# Altium integrated library NSC Analog.IntLib: 165 symbols (part 4 of 5)
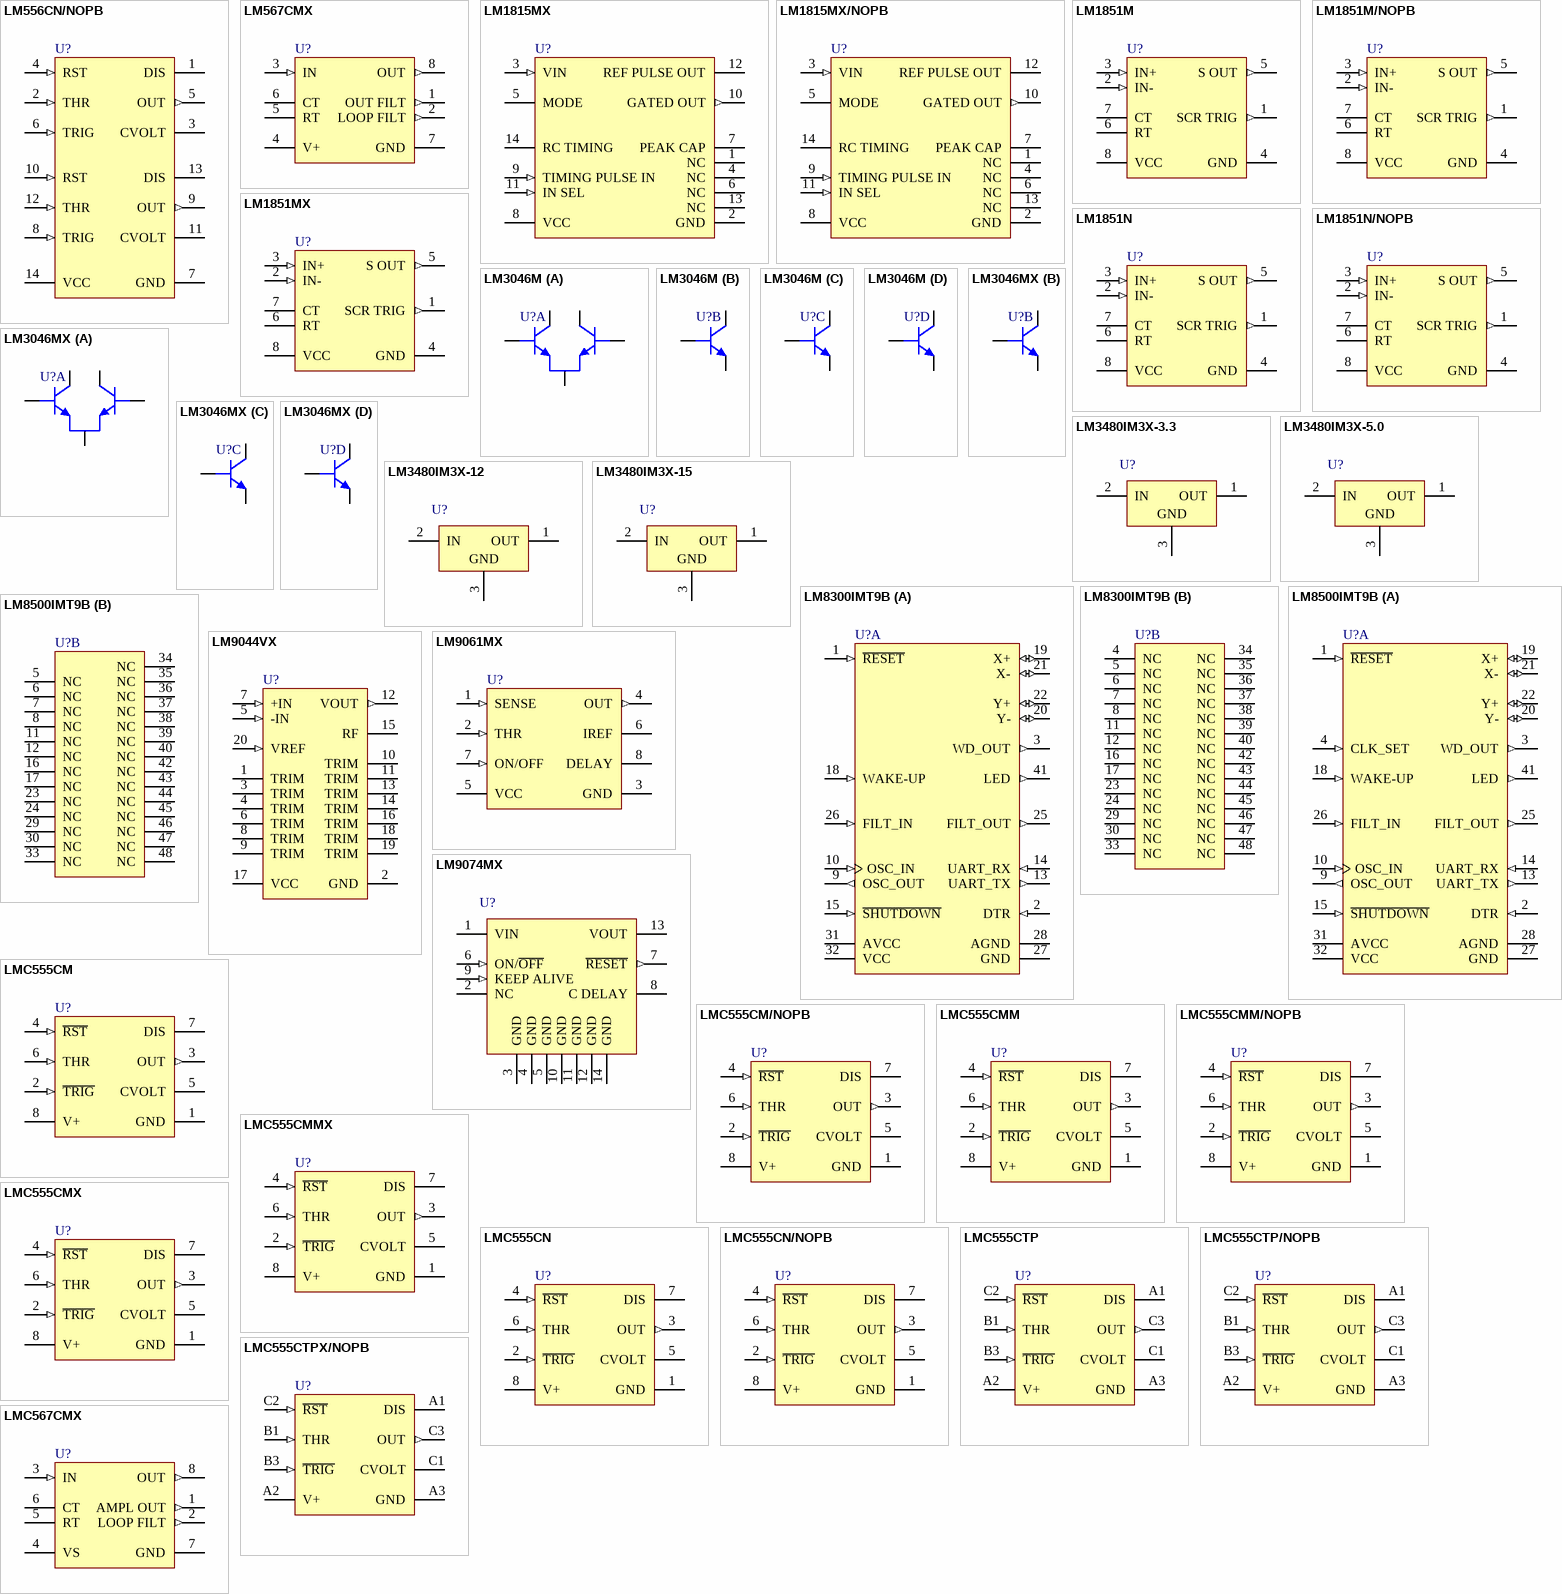
[diagram p10: symbols LM556CN/NOPB to LMC567CMX]

## LMC555CMMX
designator U?
CMOS Timer, 8-pin Mini SOIC; PartNumber: LMC555CMMX; Manufacturer: National Semiconductor; PackageTopMarking: ZXTT*ZC5; PowerWise: N; CompType: Analog IC; Published: 4-Dec-2008; DatasheetVersion: May-2006; PackageVersion: revF, Apr-2008; PackageReference: MUA08A; Publisher: Altium Limited; PackageDescription: MINI SOIC, .118 x .118 x .034in, 8 Lead, .0256in Pitch; RoHS: N; PinCount: 8; Code_JEDEC: MO-187-AA; ComponentLink1Description: LMC555 Datasheet; ComponentLink1URL: http://www.national.com/ds/LM/LMC555.pdf; ComponentLink2Description: LMC555 Web Page; ComponentLink2URL: http://www.national.com/pf/LM/LMC555.html; ComponentLink3Description: MUA08A Package Page; ComponentLink3URL: http://www.national.com/packaging/folders/mua08a.html
footprint MUA08A_N (TSOP, 8-Leads, Body 3x3mm, Pitch 0.65mm, IPC Medium Density)
footprint MUA08A_L (TSOP, 8-Leads, Body 3x3mm, Pitch 0.65mm, IPC High Density)
footprint MUA08A_M (TSOP, 8-Leads, Body 3x3mm, Pitch 0.65mm, IPC Low Density)
pins: 1 GND (power), 2 ~{TRIG} (in), 3 OUT (out), 4 ~{RST} (in), 5 CVOLT, 6 THR (in), 7 DIS (oc), 8 V+ (power)

## LMC555CMX
designator U?
CMOS Timer, 8-pin Narrow SOIC; PartNumber: LMC555CMX; Manufacturer: National Semiconductor; PackageTopMarking: NSZXTT*LMC*555CM; PowerWise: N; CompType: Analog IC; Published: 4-Dec-2008; DatasheetVersion: May-2006; PackageVersion: revM, May-2009; PackageReference: M08A; Publisher: Altium Limited; PackageDescription: SOIC Narrow, 4.9 x 3.9 x 1.45mm, 8 Lead, 1.27mm Pitch; RoHS: N; PinCount: 8; Code_JEDEC: MS-012-AA; Code_IPC: SOIC127P600-8; ComponentLink1Description: LMC555 Datasheet; ComponentLink1URL: http://www.national.com/ds/LM/LMC555.pdf; ComponentLink2Description: LMC555 Web Page; ComponentLink2URL: http://www.national.com/pf/LM/LMC555.html; ComponentLink3Description: M08A Package Page; ComponentLink3URL: http://www.national.com/packaging/folders/m08a.html
footprint M08A_N (SOIC, 8-Leads, Body 4.9x3.9mm, Pitch 1.27mm, IPC Medium Density)
footprint M08A_L (SOIC, 8-Leads, Body 4.9x3.9mm, Pitch 1.27mm, IPC High Density)
footprint M08A_M (SOIC, 8-Leads, Body 4.9x3.9mm, Pitch 1.27mm, IPC Low Density)
pins: 1 GND (power), 2 ~{TRIG} (in), 3 OUT (out), 4 ~{RST} (in), 5 CVOLT, 6 THR (in), 7 DIS (oc), 8 V+ (power)

## LMC555CN
designator U?
CMOS Timer, 8-pin MDIP; PartNumber: LMC555CN; Manufacturer: National Semiconductor; PackageTopMarking: NSUZXYTTE#*LMC*555CN; PowerWise: N; CompType: Analog IC; Published: 4-Dec-2008; DatasheetVersion: May-2006; PackageVersion: revG, May-2006; PackageReference: N08E; Publisher: Altium Limited; PackageDescription: MDIP, .365 x .250 x .130in, 8 Lead, .100in Pitch; Supplier 1: Farnell; Supplier Part Number 1: 9488243; RoHS: N; PinCount: 8; Code_JEDEC: MS-001-BA; ComponentLink1Description: LMC555 Datasheet; ComponentLink1URL: http://www.national.com/ds/LM/LMC555.pdf; ComponentLink2Description: LMC555 Web Page; ComponentLink2URL: http://www.national.com/pf/LM/LMC555.html; ComponentLink3Description: N08E Package Page; ComponentLink3URL: http://www.national.com/packaging/folders/n08e.html
footprint N08E (DIP, 8-Leads, Row Spacing 7.62mm, Pitch 2.54mm, Body 9.91x6.35mm)
pins: 1 GND (power), 2 ~{TRIG} (in), 3 OUT (out), 4 ~{RST} (in), 5 CVOLT, 6 THR (in), 7 DIS (oc), 8 V+ (power)

## LMC555CN/NOPB
designator U?
CMOS Timer, 8-pin MDIP, Pb-Free; PartNumber: LMC555CN/NOPB; Manufacturer: National Semiconductor; PackageTopMarking: NSUZXYTTE#*LMC*555CN; PowerWise: N; CompType: Analog IC; Published: 1-Mar-2010; DatasheetVersion: May-2006; PackageVersion: revG, May-2006; PackageReference: N08E; Publisher: Altium Limited; PackageDescription: MDIP, .365 x .250 x .130in, 8 Lead, .100in Pitch; Supplier 1: Digi-Key; Supplier Part Number 1: LMC555CN-ND; Supplier 2: Farnell; Supplier Part Number 2: 1496016; RoHS: Y; PinCount: 8; Code_JEDEC: MS-001-BA; ComponentLink1Description: LMC555 Datasheet; ComponentLink1URL: http://www.national.com/ds/LM/LMC555.pdf; ComponentLink2Description: LMC555 Web Page; ComponentLink2URL: http://www.national.com/pf/LM/LMC555.html; ComponentLink3Description: N08E Package Page; ComponentLink3URL: http://www.national.com/packaging/folders/n08e.html
footprint N08E (DIP, 8-Leads, Row Spacing 7.62mm, Pitch 2.54mm, Body 9.91x6.35mm)
pins: 1 GND (power), 2 ~{TRIG} (in), 3 OUT (out), 4 ~{RST} (in), 5 CVOLT, 6 THR (in), 7 DIS (oc), 8 V+ (power)

## LMC555CTP
designator U?
CMOS Timer, 8-pin Micro SMD; PartNumber: LMC555CTP; Manufacturer: National Semiconductor; PackageTopMarking: XVF*I 02; PowerWise: N; CompType: Analog IC; Published: 29-May-2009; DatasheetVersion: May-2006; PackageVersion: revA, Mar-2002; PackageReference: TPA08FGA; Publisher: Altium Limited; PackageDescription: Thin Micro SMD, 8 Bump, 0.5mm Pitch; RoHS: Y; PinCount: 8; Code_JEDEC: MO-211-BC; ComponentLink1Description: LMC555 Datasheet; ComponentLink1URL: http://www.national.com/ds/LM/LMC555.pdf; ComponentLink2Description: LMC555 Web Page; ComponentLink2URL: http://www.national.com/pf/LM/LMC555.html; ComponentLink3Description: TPA08FGA Package Page; ComponentLink3URL: http://www.national.com/packaging/folders/tpa08fga.html
footprint TPA08FGA (Micro SMD, 8-Leads, Body 1.44x1.41mm, Pitch 0.5mm, NSC Recommended)
pins: A1 DIS (oc), A2 V+ (power), A3 GND (power), B1 THR (in), B3 ~{TRIG} (in), C1 CVOLT, C2 ~{RST} (in), C3 OUT (out)

## LMC555CTP/NOPB
designator U?
CMOS Timer, 8-pin Micro SMD, Pb-Free; PartNumber: LMC555CTP/NOPB; Manufacturer: National Semiconductor; PackageTopMarking: XVF*I 02; PowerWise: N; CompType: Analog IC; Published: 1-Mar-2010; DatasheetVersion: May-2006; PackageVersion: revA, Mar-2002; PackageReference: TPA08FGA; Publisher: Altium Limited; PackageDescription: Thin Micro SMD, 8 Bump, 0.5mm Pitch; Supplier 1: Digi-Key; Supplier Part Number 1: LMC555CTP-ND; RoHS: Y; PinCount: 8; Code_JEDEC: MO-211-BC; ComponentLink1Description: LMC555 Datasheet; ComponentLink1URL: http://www.national.com/ds/LM/LMC555.pdf; ComponentLink2Description: LMC555 Web Page; ComponentLink2URL: http://www.national.com/pf/LM/LMC555.html; ComponentLink3Description: TPA08FGA Package Page; ComponentLink3URL: http://www.national.com/packaging/folders/tpa08fga.html
footprint TPA08FGA (Micro SMD, 8-Leads, Body 1.44x1.41mm, Pitch 0.5mm, NSC Recommended)
pins: A1 DIS (oc), A2 V+ (power), A3 GND (power), B1 THR (in), B3 ~{TRIG} (in), C1 CVOLT, C2 ~{RST} (in), C3 OUT (out)

## LMC555CTPX/NOPB
designator U?
CMOS Timer, 8-pin Micro SMD, Pb-Free; PartNumber: LMC555CTPX/NOPB; Manufacturer: National Semiconductor; PackageTopMarking: XVF*I 02; PowerWise: N; CompType: Analog IC; Published: 1-Mar-2010; DatasheetVersion: May-2006; PackageVersion: revA, Mar-2002; PackageReference: TPA08FGA; Publisher: Altium Limited; PackageDescription: Thin Micro SMD, 8 Bump, 0.5mm Pitch; Supplier 1: Digi-Key; Supplier Part Number 1: LMC555CTPX-ND; RoHS: Y; PinCount: 8; Code_JEDEC: MO-211-BC; ComponentLink1Description: LMC555 Datasheet; ComponentLink1URL: http://www.national.com/ds/LM/LMC555.pdf; ComponentLink2Description: LMC555 Web Page; ComponentLink2URL: http://www.national.com/pf/LM/LMC555.html; ComponentLink3Description: TPA08FGA Package Page; ComponentLink3URL: http://www.national.com/packaging/folders/tpa08fga.html
footprint TPA08FGA (Micro SMD, 8-Leads, Body 1.44x1.41mm, Pitch 0.5mm, NSC Recommended)
pins: A1 DIS (oc), A2 V+ (power), A3 GND (power), B1 THR (in), B3 ~{TRIG} (in), C1 CVOLT, C2 ~{RST} (in), C3 OUT (out)

## LMC567CMX
designator U?
Low Power Tone Decoder, 8-pin Narrow SOIC; PartNumber: LMC567CMX; Manufacturer: National Semiconductor; PackageTopMarking: NSZXTT*LMC*567CM; PowerWise: N; CompType: Analog IC; Published: 4-Dec-2008; DatasheetVersion: Jun-1999; PackageVersion: revM, May-2009; PackageReference: M08A; Publisher: Altium Limited; PackageDescription: SOIC Narrow, 4.9 x 3.9 x 1.45mm, 8 Lead, 1.27mm Pitch; Supplier 1: Digi-Key; Supplier Part Number 1: LMC567CMX-ND; RoHS: N; PinCount: 8; Code_JEDEC: MS-012-AA; Code_IPC: SOIC127P600-8; ComponentLink1Description: LMC567 Datasheet; ComponentLink1URL: http://www.national.com/ds/LM/LMC567.pdf; ComponentLink2Description: LMC567 Web Page; ComponentLink2URL: http://www.national.com/pf/LM/LMC567.html; ComponentLink3Description: M08A Package Page; ComponentLink3URL: http://www.national.com/packaging/folders/m08a.html
footprint M08A_N (SOIC, 8-Leads, Body 4.9x3.9mm, Pitch 1.27mm, IPC Medium Density)
footprint M08A_L (SOIC, 8-Leads, Body 4.9x3.9mm, Pitch 1.27mm, IPC High Density)
footprint M08A_M (SOIC, 8-Leads, Body 4.9x3.9mm, Pitch 1.27mm, IPC Low Density)
pins: 1 AMPL OUT (out), 2 LOOP FILT (out), 3 IN (in), 4 VS (power), 5 RT, 6 CT, 7 GND (power), 8 OUT (out)

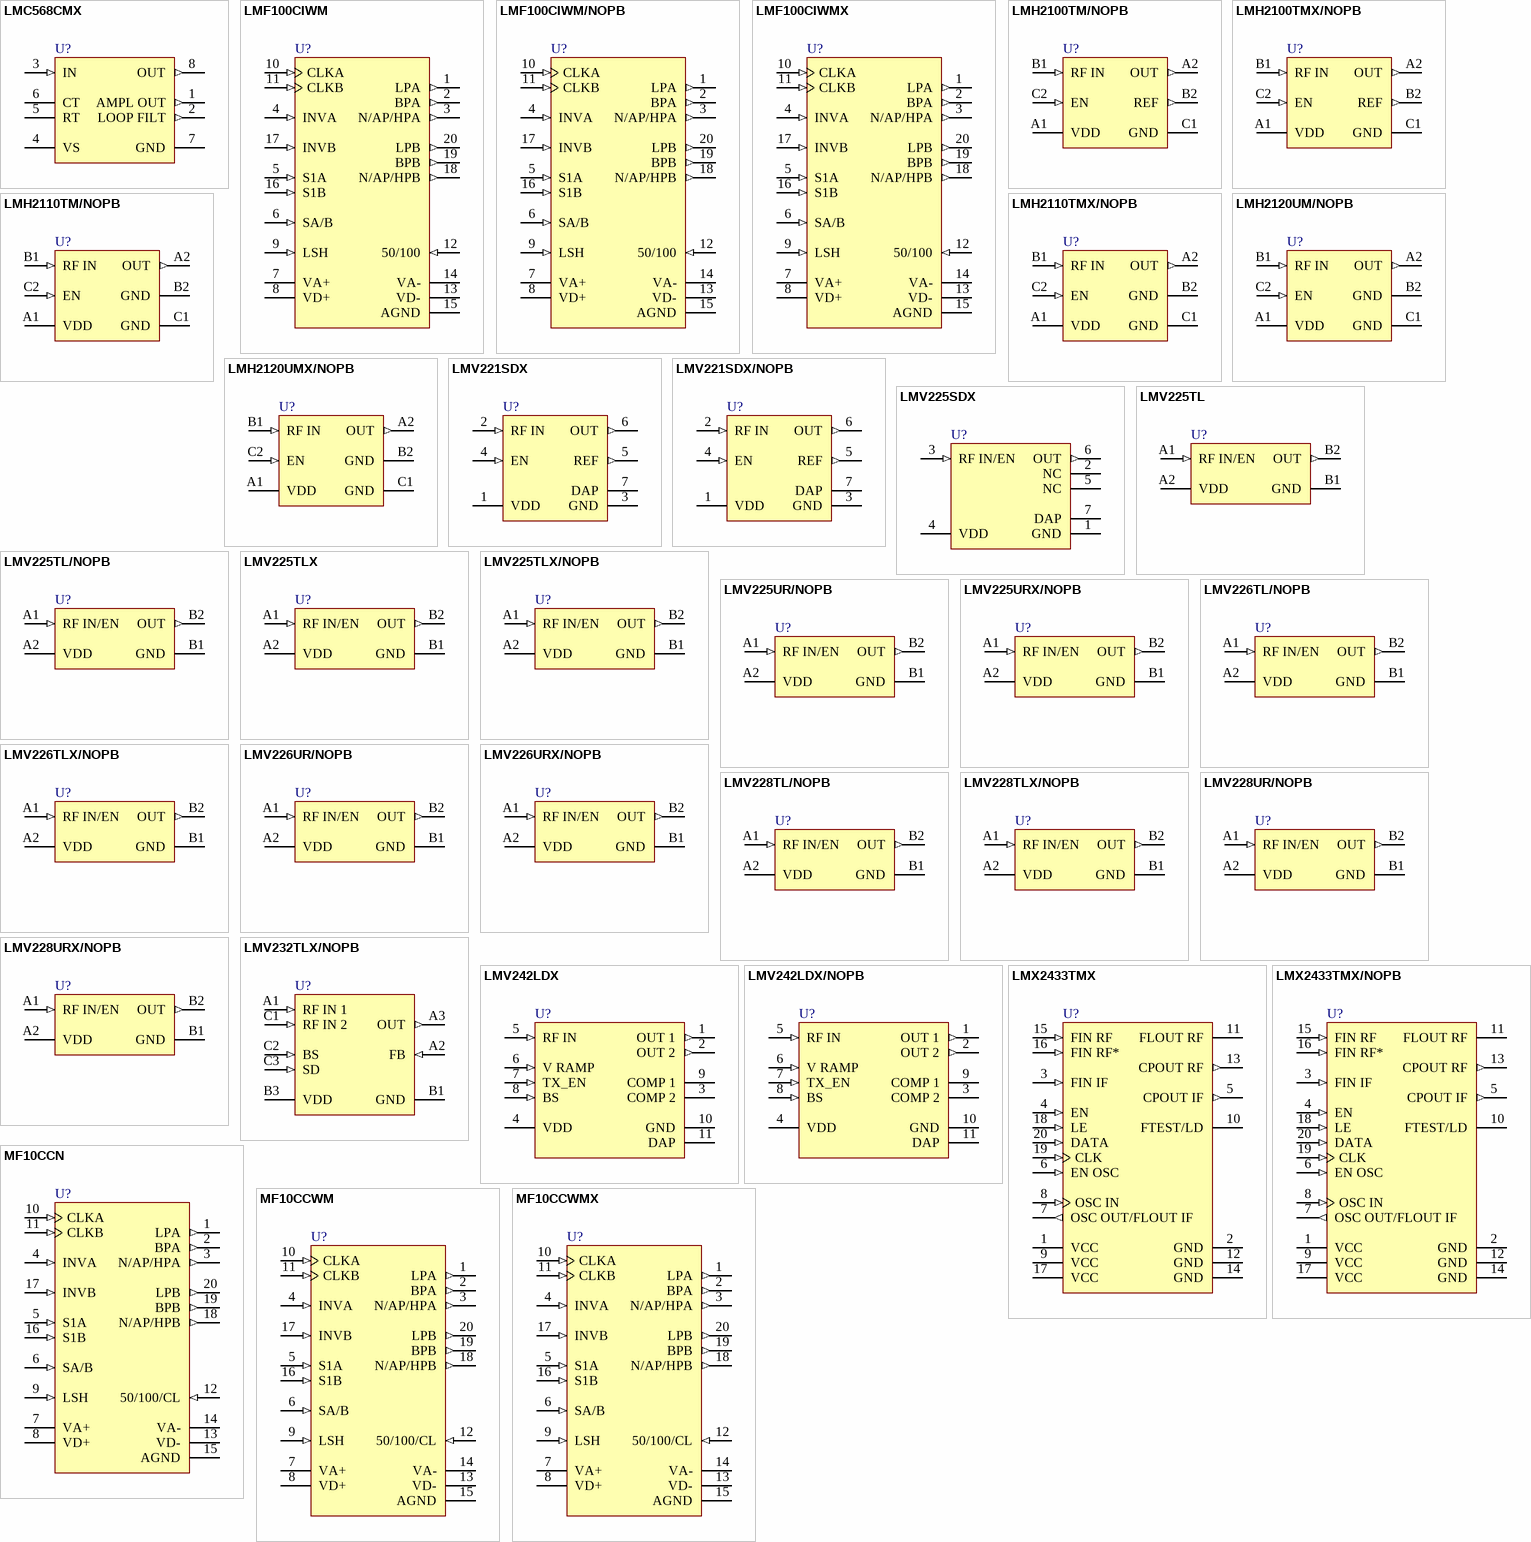
[diagram p6: symbols LMC568CMX to MF10CCWMX]

## LMC568CMX
designator U?
Low Power Phase-Locked Loop, 8-pin Narrow SOIC; PartNumber: LMC568CMX; Manufacturer: National Semiconductor; PackageTopMarking: NSZXTT*LMC*568CM; PowerWise: N; CompType: Analog IC; Published: 4-Dec-2008; DatasheetVersion: May-1999; PackageVersion: revM, May-2009; PackageReference: M08A; Publisher: Altium Limited; PackageDescription: SOIC Narrow, 4.9 x 3.9 x 1.45mm, 8 Lead, 1.27mm Pitch; RoHS: N; PinCount: 8; Code_JEDEC: MS-012-AA; Code_IPC: SOIC127P600-8; ComponentLink1Description: LMC568 Datasheet; ComponentLink1URL: http://www.national.com/ds/LM/LMC568.pdf; ComponentLink2Description: LMC568 Web Page; ComponentLink2URL: http://www.national.com/pf/LM/LMC568.html; ComponentLink3Description: M08A Package Page; ComponentLink3URL: http://www.national.com/packaging/folders/m08a.html
footprint M08A_N (SOIC, 8-Leads, Body 4.9x3.9mm, Pitch 1.27mm, IPC Medium Density)
footprint M08A_L (SOIC, 8-Leads, Body 4.9x3.9mm, Pitch 1.27mm, IPC High Density)
footprint M08A_M (SOIC, 8-Leads, Body 4.9x3.9mm, Pitch 1.27mm, IPC Low Density)
pins: 1 AMPL OUT (out), 2 LOOP FILT (out), 3 IN (in), 4 VS (power), 5 RT, 6 CT, 7 GND (power), 8 OUT (out)

## LMF100CIWM
designator U?
High Performance Dual Switched Capacitor Filter, 20-pin Wide SOIC; PartNumber: LMF100CIWM; Manufacturer: National Semiconductor; PackageTopMarking: NSUZXYTTE#*LMF100*CIWM; PowerWise: N; CompType: Analog IC; Published: 4-Dec-2008; DatasheetVersion: Jul-1999; PackageVersion: revG, Jan-1996; PackageReference: M20B; Publisher: Altium Limited; PackageDescription: Molded Package, S0, .300in Wide, 20 Lead; Supplier 1: Farnell; Supplier Part Number 1: 1651957; RoHS: N; PinCount: 20; Code_JEDEC: MS-013-AC; Code_IPC: SOIC127P1030-20; ComponentLink1Description: LMF100 Datasheet; ComponentLink1URL: http://www.national.com/ds/LM/LMF100.pdf; ComponentLink2Description: LMF100 Web Page; ComponentLink2URL: http://www.national.com/pf/LM/LMF100.html; ComponentLink3Description: M20B Package Page; ComponentLink3URL: http://www.national.com/packaging/folders/m20b.html
footprint M20B_N (SOIC, 20-Leads, Body 12.8x7.5mm, Pitch 1.27mm, IPC Medium Density)
footprint M20B_L (SOIC, 20-Leads, Body 12.8x7.5mm, Pitch 1.27mm, IPC High Density)
footprint M20B_M (SOIC, 20-Leads, Body 12.8x7.5mm, Pitch 1.27mm, IPC Low Density)
pins: 1 LPA (out), 2 BPA (out), 3 N/AP/HPA (out), 4 INVA (in), 5 S1A (in), 6 SA/B (in), 7 VA+ (power), 8 VD+ (power), 9 LSH (in), 10 CLKA (in), 11 CLKB (in), 12 50/100 (in), 13 VD- (power), 14 VA- (power), 15 AGND (power), 16 S1B (in), 17 INVB (in), 18 N/AP/HPB (out), 19 BPB (out), 20 LPB (out)

## LMF100CIWM/NOPB
designator U?
High Performance Dual Switched Capacitor Filter, 20-pin Wide SOIC, Pb-Free; PartNumber: LMF100CIWM/NOPB; Manufacturer: National Semiconductor; PackageTopMarking: NSUZXYTTE#*LMF100*CIWM; PowerWise: N; CompType: Analog IC; Published: 1-Mar-2010; DatasheetVersion: Jul-1999; PackageVersion: revG, Jan-1996; PackageReference: M20B; Publisher: Altium Limited; PackageDescription: Molded Package, S0, .300in Wide, 20 Lead; Supplier 1: Digi-Key; Supplier Part Number 1: LMF100CIWM-ND; RoHS: Y; PinCount: 20; Code_JEDEC: MS-013-AC; Code_IPC: SOIC127P1030-20; ComponentLink1Description: LMF100 Datasheet; ComponentLink1URL: http://www.national.com/ds/LM/LMF100.pdf; ComponentLink2Description: LMF100 Web Page; ComponentLink2URL: http://www.national.com/pf/LM/LMF100.html; ComponentLink3Description: M20B Package Page; ComponentLink3URL: http://www.national.com/packaging/folders/m20b.html
footprint M20B_N (SOIC, 20-Leads, Body 12.8x7.5mm, Pitch 1.27mm, IPC Medium Density)
footprint M20B_L (SOIC, 20-Leads, Body 12.8x7.5mm, Pitch 1.27mm, IPC High Density)
footprint M20B_M (SOIC, 20-Leads, Body 12.8x7.5mm, Pitch 1.27mm, IPC Low Density)
pins: 1 LPA (out), 2 BPA (out), 3 N/AP/HPA (out), 4 INVA (in), 5 S1A (in), 6 SA/B (in), 7 VA+ (power), 8 VD+ (power), 9 LSH (in), 10 CLKA (in), 11 CLKB (in), 12 50/100 (in), 13 VD- (power), 14 VA- (power), 15 AGND (power), 16 S1B (in), 17 INVB (in), 18 N/AP/HPB (out), 19 BPB (out), 20 LPB (out)

## LMF100CIWMX
designator U?
High Performance Dual Switched Capacitor Filter, 20-pin Wide SOIC; PartNumber: LMF100CIWMX; Manufacturer: National Semiconductor; PackageTopMarking: NSUZXYTTE#*LMF100*CIWM; PowerWise: N; CompType: Analog IC; Published: 4-Dec-2008; DatasheetVersion: Jul-1999; PackageVersion: revG, Jan-1996; PackageReference: M20B; Publisher: Altium Limited; PackageDescription: Molded Package, S0, .300in Wide, 20 Lead; RoHS: N; PinCount: 20; Code_JEDEC: MS-013-AC; Code_IPC: SOIC127P1030-20; ComponentLink1Description: LMF100 Datasheet; ComponentLink1URL: http://www.national.com/ds/LM/LMF100.pdf; ComponentLink2Description: LMF100 Web Page; ComponentLink2URL: http://www.national.com/pf/LM/LMF100.html; ComponentLink3Description: M20B Package Page; ComponentLink3URL: http://www.national.com/packaging/folders/m20b.html
footprint M20B_N (SOIC, 20-Leads, Body 12.8x7.5mm, Pitch 1.27mm, IPC Medium Density)
footprint M20B_L (SOIC, 20-Leads, Body 12.8x7.5mm, Pitch 1.27mm, IPC High Density)
footprint M20B_M (SOIC, 20-Leads, Body 12.8x7.5mm, Pitch 1.27mm, IPC Low Density)
pins: 1 LPA (out), 2 BPA (out), 3 N/AP/HPA (out), 4 INVA (in), 5 S1A (in), 6 SA/B (in), 7 VA+ (power), 8 VD+ (power), 9 LSH (in), 10 CLKA (in), 11 CLKB (in), 12 50/100 (in), 13 VD- (power), 14 VA- (power), 15 AGND (power), 16 S1B (in), 17 INVB (in), 18 N/AP/HPB (out), 19 BPB (out), 20 LPB (out)

## LMH2100TM/NOPB
designator U?
50 MHz to 4 GHz 40 dB Logarithmic Power Detector for CDMA and WCDMA, 6-pin Micro SMD, Pb-Free; PartNumber: LMH2100TM/NOPB; Manufacturer: National Semiconductor; PackageTopMarking: XV*I J; PowerWise: N; CompType: Analog IC; Published: 1-Mar-2010; DatasheetVersion: Mar-2008; PackageVersion: revB; PackageReference: TMD06BBA; Publisher: Altium Limited; PackageDescription: Thin Micro SMD, 6 Bump, 0.4mm Pitch; Supplier 1: Digi-Key; Supplier Part Number 1: LMH2100TMTR-ND; Supplier 2: Digi-Key; Supplier Part Number 2: LMH2100TMCT-ND; Supplier 3: Digi-Key; Supplier Part Number 3: LMH2100TMDKR-ND; RoHS: Y; PinCount: 6; ComponentLink1Description: LMH2100 Datasheet; ComponentLink1URL: http://www.national.com/ds/LM/LMH2100.pdf; ComponentLink2Description: LMH2100 Web Page; ComponentLink2URL: http://www.national.com/pf/LM/LMH2100.html; ComponentLink3Description: TMD06BBA Package Page; ComponentLink3URL: http://www.national.com/packaging/folders/tmd06bba.html
footprint TMD06BBA (Micro SMD, 6-Leads, Body 1.24x0.84mm, Pitch 0.4mm, NSC Recommended)
pins: A1 VDD (power), A2 OUT (out), B1 RF IN (in), B2 REF (out), C1 GND (power), C2 EN (in)

## LMH2100TMX/NOPB
designator U?
50 MHz to 4 GHz 40 dB Logarithmic Power Detector for CDMA and WCDMA, 6-pin Micro SMD, Pb-Free; PartNumber: LMH2100TMX/NOPB; Manufacturer: National Semiconductor; PackageTopMarking: XV*I J; PowerWise: N; CompType: Analog IC; Published: 1-Mar-2010; DatasheetVersion: Mar-2008; PackageVersion: revB; PackageReference: TMD06BBA; Publisher: Altium Limited; PackageDescription: Thin Micro SMD, 6 Bump, 0.4mm Pitch; Supplier 1: Digi-Key; Supplier Part Number 1: LMH2100TMX-ND; RoHS: Y; PinCount: 6; ComponentLink1Description: LMH2100 Datasheet; ComponentLink1URL: http://www.national.com/ds/LM/LMH2100.pdf; ComponentLink2Description: LMH2100 Web Page; ComponentLink2URL: http://www.national.com/pf/LM/LMH2100.html; ComponentLink3Description: TMD06BBA Package Page; ComponentLink3URL: http://www.national.com/packaging/folders/tmd06bba.html
footprint TMD06BBA (Micro SMD, 6-Leads, Body 1.24x0.84mm, Pitch 0.4mm, NSC Recommended)
pins: A1 VDD (power), A2 OUT (out), B1 RF IN (in), B2 REF (out), C1 GND (power), C2 EN (in)

## LMH2110TM/NOPB
designator U?
8 GHz Logarithmic RMS Power Detector with 45 dB dynamic range, 6-pin Micro SMD, Pb-Free; PartNumber: LMH2110TM/NOPB; Manufacturer: National Semiconductor; PackageTopMarking: XV*I P; PowerWise: N; CompType: Analog IC; Published: 1-Mar-2010; DatasheetVersion: Jan-2010; PackageVersion: revB; PackageReference: TMD06BBA; Publisher: Altium Limited; PackageDescription: Thin Micro SMD, 6 Bump, 0.4mm Pitch; Supplier 1: Digi-Key; Supplier Part Number 1: LMH2110TMTR-ND; Supplier 2: Digi-Key; Supplier Part Number 2: LMH2110TMCT-ND; Supplier 3: Digi-Key; Supplier Part Number 3: LMH2110TMDKR-ND; RoHS: Y; PinCount: 6; ComponentLink1Description: LMH2110 Datasheet; ComponentLink1URL: http://www.national.com/ds/LM/LMH2110.pdf; ComponentLink2Description: LMH2110 Web Page; ComponentLink2URL: http://www.national.com/pf/LM/LMH2110.html; ComponentLink3Description: TMD06BBA Package Page; ComponentLink3URL: http://www.national.com/packaging/folders/tmd06bba.html
footprint TMD06BBA (Micro SMD, 6-Leads, Body 1.24x0.84mm, Pitch 0.4mm, NSC Recommended)
pins: A1 VDD (power), A2 OUT (out), B1 RF IN (in), B2 GND (power), C1 GND (power), C2 EN (in)

## LMH2110TMX/NOPB
designator U?
8 GHz Logarithmic RMS Power Detector with 45 dB dynamic range, 6-pin Micro SMD, Pb-Free; PartNumber: LMH2110TMX/NOPB; Manufacturer: National Semiconductor; PackageTopMarking: XV*I P; PowerWise: N; CompType: Analog IC; Published: 1-Mar-2010; DatasheetVersion: Jan-2010; PackageVersion: revB; PackageReference: TMD06BBA; Publisher: Altium Limited; PackageDescription: Thin Micro SMD, 6 Bump, 0.4mm Pitch; Supplier 1: Digi-Key; Supplier Part Number 1: LMH2110TMX-ND; RoHS: Y; PinCount: 6; ComponentLink1Description: LMH2110 Datasheet; ComponentLink1URL: http://www.national.com/ds/LM/LMH2110.pdf; ComponentLink2Description: LMH2110 Web Page; ComponentLink2URL: http://www.national.com/pf/LM/LMH2110.html; ComponentLink3Description: TMD06BBA Package Page; ComponentLink3URL: http://www.national.com/packaging/folders/tmd06bba.html
footprint TMD06BBA (Micro SMD, 6-Leads, Body 1.24x0.84mm, Pitch 0.4mm, NSC Recommended)
pins: A1 VDD (power), A2 OUT (out), B1 RF IN (in), B2 GND (power), C1 GND (power), C2 EN (in)

## LMH2120UM/NOPB
designator U?
6 GHz Linear RMS Power Detector with 40 dB Dynamic Range, 6 pin MICRO SMD; PartNumber: LMH2120UM/NOPB; Manufacturer: National Semiconductor; PackageTopMarking: XV*I R; PowerWise: N; CompType: Analog IC; Published: 16-Nov-2010; DatasheetVersion: Jul-2010; PackageVersion: revB, 2010; PackageReference: UMD06AAA; Publisher: Altium Limited; PackageDescription: Thin Micro SMD, 6 Bump, 0.4mm Pitch; RoHS: Y; PinCount: 6; ComponentLink1Description: LMH2120 Datasheet; ComponentLink1URL: http://www.national.com/ds/LM/LMH2120.pdf; ComponentLink2Description: LMH2120 Web Page; ComponentLink2URL: http://www.national.com/pf/LM/LMH2120.html
footprint UMD06AAA (Micro SMD, 6-Leads, Body 1.23x0.83mm, Pitch 0.4mm, NSC Recommended)
pins: A1 VDD (power), A2 OUT (out), B1 RF IN (in), B2 GND (power), C1 GND (power), C2 EN (in)

## LMH2120UMX/NOPB
designator U?
6 GHz Linear RMS Power Detector with 40 dB Dynamic Range, 6 pin MICRO SMD; PartNumber: LMH2120UMX/NOPB; Manufacturer: National Semiconductor; PackageTopMarking: XV*I R; PowerWise: N; CompType: Analog IC; Published: 16-Nov-2010; DatasheetVersion: Jul-2010; PackageVersion: revB, 2010; PackageReference: UMD06AAA; Publisher: Altium Limited; PackageDescription: Thin Micro SMD, 6 Bump, 0.4mm Pitch; RoHS: Y; PinCount: 6; ComponentLink1Description: LMH2120 Datasheet; ComponentLink1URL: http://www.national.com/ds/LM/LMH2120.pdf; ComponentLink2Description: LMH2120 Web Page; ComponentLink2URL: http://www.national.com/pf/LM/LMH2120.html
footprint UMD06AAA (Micro SMD, 6-Leads, Body 1.23x0.83mm, Pitch 0.4mm, NSC Recommended)
pins: A1 VDD (power), A2 OUT (out), B1 RF IN (in), B2 GND (power), C1 GND (power), C2 EN (in)

## LMV221SDX
designator U?
50 MHz to 3.5 GHz 40 dB Logarithmic Power Detector for CDMA and WCDMA, 6-pin LLP; PartNumber: LMV221SDX; Manufacturer: National Semiconductor; PackageTopMarking: XTT*A96; PowerWise: Y; CompType: Analog IC; Published: 4-Dec-2008; DatasheetVersion: Mar-2008; PackageVersion: revA, Nov-2003; PackageReference: SDB06A; Publisher: Altium Limited; PackageDescription: LLP, Plastic, Dual, 2.2 x 2.5 x 0.8mm Body, 6 Lead, 0.65mm Pitch, No Pullback; RoHS: N; PinCount: 6; ComponentLink1Description: LMV221 Datasheet; ComponentLink1URL: http://www.national.com/ds/LM/LMV221.pdf; ComponentLink2Description: LMV221 Web Page; ComponentLink2URL: http://www.national.com/pf/LM/LMV221.html; ComponentLink3Description: SDB06A package page; ComponentLink3URL: http://www.national.com/packaging/folders/sdb06a.html
footprint SDB06A (SON, 6-Leads, Body 2.2x2.5mm, Pitch 0.65mm, NSC Recommended (SC-70 Land))
pins: 1 VDD (power), 2 RF IN (in), 3 GND (power), 4 EN (in), 5 REF (out), 6 OUT (out), 7 DAP (power)

## LMV221SDX/NOPB
designator U?
50 MHz to 3.5 GHz 40 dB Logarithmic Power Detector for CDMA and WCDMA, 6-pin LLP, Pb-Free; PartNumber: LMV221SDX/NOPB; Manufacturer: National Semiconductor; PackageTopMarking: XTT*A96; PowerWise: Y; CompType: Analog IC; Published: 1-Mar-2010; DatasheetVersion: Mar-2008; PackageVersion: revA, Nov-2003; PackageReference: SDB06A; Publisher: Altium Limited; PackageDescription: LLP, Plastic, Dual, 2.2 x 2.5 x 0.8mm Body, 6 Lead, 0.65mm Pitch, No Pullback; Supplier 1: Digi-Key; Supplier Part Number 1: LMV221SDX-ND; RoHS: Y; PinCount: 6; ComponentLink1Description: LMV221 Datasheet; ComponentLink1URL: http://www.national.com/ds/LM/LMV221.pdf; ComponentLink2Description: LMV221 Web Page; ComponentLink2URL: http://www.national.com/pf/LM/LMV221.html; ComponentLink3Description: SDB06A Package Page; ComponentLink3URL: http://www.national.com/packaging/folders/sdb06a.html
footprint SDB06A (SON, 6-Leads, Body 2.2x2.5mm, Pitch 0.65mm, NSC Recommended (SC-70 Land))
pins: 1 VDD (power), 2 RF IN (in), 3 GND (power), 4 EN (in), 5 REF (out), 6 OUT (out), 7 DAP (power)

## LMV225SDX
designator U?
RF Power Detector for CDMA and WCDMA, 6-pin LLP; PartNumber: LMV225SDX; Manufacturer: National Semiconductor; PackageTopMarking: XTT*A90; PowerWise: Y; CompType: Analog IC; Published: 4-Dec-2008; DatasheetVersion: Oct-2006; PackageVersion: revA, Nov-2003; PackageReference: SDB06A; Publisher: Altium Limited; PackageDescription: LLP, Plastic, Dual, 2.2 x 2.5 x 0.8mm Body, 6 Lead, 0.65mm Pitch, No Pullback; RoHS: N; PinCount: 6; ComponentLink1Description: LMV225 Datasheet; ComponentLink1URL: http://www.national.com/ds/LM/LMV225.pdf; ComponentLink2Description: LMV225 Web Page; ComponentLink2URL: http://www.national.com/pf/LM/LMV225.html; ComponentLink3Description: SDB06A package page; ComponentLink3URL: http://www.national.com/packaging/folders/sdb06a.html
footprint SDB06A (SON, 6-Leads, Body 2.2x2.5mm, Pitch 0.65mm, NSC Recommended (SC-70 Land))
pins: 1 GND (power), 2 NC, 3 RF IN/EN (in), 4 VDD (power), 5 NC, 6 OUT (out), 7 DAP (power)

## LMV225TL
designator U?
RF Power Detector for CDMA and WCDMA from the PowerWise® Family, 4-pin Micro SMD; PartNumber: LMV225TL; Manufacturer: National Semiconductor; PackageTopMarking: X*I; PowerWise: Y; CompType: Analog IC; Published: 4-Dec-2008; DatasheetVersion: Oct-2006; PackageVersion: revD, Mar-2005; PackageReference: TLA04AAA; Publisher: Altium Limited; PackageDescription: Thin Micro SMD, 4 Bump (Large), 0.5mm Pitch; Supplier 1: Farnell; Supplier Part Number 1: 8238898; RoHS: N; PinCount: 4; Code_JEDEC: MO-211-BA; ComponentLink1Description: LMV225 Datasheet; ComponentLink1URL: http://www.national.com/ds/LM/LMV225.pdf; ComponentLink2Description: LMV225 Web Page; ComponentLink2URL: http://www.national.com/pf/LM/LMV225.html; ComponentLink3Description: TLA04AAA package page; ComponentLink3URL: http://www.national.com/packaging/folders/tla04aaa.html
footprint TLA04AAA (Micro SMD, 4-Leads, Body 1.01x1.01mm, Pitch 0.5mm, NSC Recommended)
pins: A1 RF IN/EN (in), A2 VDD (power), B1 GND (power), B2 OUT (out)

## LMV225TL/NOPB
designator U?
RF Power Detector for CDMA and WCDMA, 4-pin Micro SMD, Pb-Free; PartNumber: LMV225TL/NOPB; Manufacturer: National Semiconductor; PackageTopMarking: X*I; PowerWise: Y; CompType: Analog IC; Published: 1-Mar-2010; DatasheetVersion: Oct-2006; PackageVersion: revD, Mar-2005; PackageReference: TLA04AAA; Publisher: Altium Limited; PackageDescription: Thin Micro SMD, 4 Bump (Large), 0.5mm Pitch; Supplier 1: Digi-Key; Supplier Part Number 1: LMV225TLTR-ND; Supplier 2: Digi-Key; Supplier Part Number 2: LMV225TLCT-ND; Supplier 3: Digi-Key; Supplier Part Number 3: LMV225TLDKR-ND; RoHS: Y; PinCount: 4; Code_JEDEC: MO-211-BA; ComponentLink1Description: LMV225 Datasheet; ComponentLink1URL: http://www.national.com/ds/LM/LMV225.pdf; ComponentLink2Description: LMV225 Web Page; ComponentLink2URL: http://www.national.com/pf/LM/LMV225.html; ComponentLink3Description: TLA04AAA Package Page; ComponentLink3URL: http://www.national.com/packaging/folders/tla04aaa.html
footprint TLA04AAA (Micro SMD, 4-Leads, Body 1.01x1.01mm, Pitch 0.5mm, NSC Recommended)
pins: A1 RF IN/EN (in), A2 VDD (power), B1 GND (power), B2 OUT (out)

## LMV225TLX
designator U?
RF Power Detector for CDMA and WCDMA, 4-pin Micro SMD; PartNumber: LMV225TLX; Manufacturer: National Semiconductor; PackageTopMarking: X*I; PowerWise: Y; CompType: Analog IC; Published: 4-Dec-2008; DatasheetVersion: Oct-2006; PackageVersion: revD, Mar-2005; PackageReference: TLA04AAA; Publisher: Altium Limited; PackageDescription: Thin Micro SMD, 4 Bump (Large), 0.5mm Pitch; RoHS: N; PinCount: 4; Code_JEDEC: MO-211-BA; ComponentLink1Description: LMV225 Datasheet; ComponentLink1URL: http://www.national.com/ds/LM/LMV225.pdf; ComponentLink2Description: LMV225 Web Page; ComponentLink2URL: http://www.national.com/pf/LM/LMV225.html; ComponentLink3Description: TLA04AAA package page; ComponentLink3URL: http://www.national.com/packaging/folders/tla04aaa.html
footprint TLA04AAA (Micro SMD, 4-Leads, Body 1.01x1.01mm, Pitch 0.5mm, NSC Recommended)
pins: A1 RF IN/EN (in), A2 VDD (power), B1 GND (power), B2 OUT (out)

## LMV225TLX/NOPB
designator U?
RF Power Detector for CDMA and WCDMA, 4-pin Micro SMD, Pb-Free; PartNumber: LMV225TLX/NOPB; Manufacturer: National Semiconductor; PackageTopMarking: X*I; PowerWise: Y; CompType: Analog IC; Published: 1-Mar-2010; DatasheetVersion: Oct-2006; PackageVersion: revD, Mar-2005; PackageReference: TLA04AAA; Publisher: Altium Limited; PackageDescription: Thin Micro SMD, 4 Bump (Large), 0.5mm Pitch; Supplier 1: Digi-Key; Supplier Part Number 1: LMV225TLX-ND; RoHS: Y; PinCount: 4; Code_JEDEC: MO-211-BA; ComponentLink1Description: LMV225 Datasheet; ComponentLink1URL: http://www.national.com/ds/LM/LMV225.pdf; ComponentLink2Description: LMV225 Web Page; ComponentLink2URL: http://www.national.com/pf/LM/LMV225.html; ComponentLink3Description: TLA04AAA Package Page; ComponentLink3URL: http://www.national.com/packaging/folders/tla04aaa.html
footprint TLA04AAA (Micro SMD, 4-Leads, Body 1.01x1.01mm, Pitch 0.5mm, NSC Recommended)
pins: A1 RF IN/EN (in), A2 VDD (power), B1 GND (power), B2 OUT (out)

## LMV225UR/NOPB
designator U?
RF Power Detector for CDMA and WCDMA, 4-pin Micro SMD, Pb-Free; PartNumber: LMV225UR/NOPB; Manufacturer: National Semiconductor; PackageTopMarking: X*I; PowerWise: N; CompType: Analog IC; Published: 1-Mar-2010; DatasheetVersion: Oct-2006; PackageVersion: revC, Mar-2005; PackageReference: URA04AAA; Publisher: Altium Limited; PackageDescription: Ultra Thin Micro SMD, 4 Bump (Large), 0.5mm Pitch; Supplier 1: Digi-Key; Supplier Part Number 1: LMV225URTR-ND; Supplier 2: Digi-Key; Supplier Part Number 2: LMV225URCT-ND; Supplier 3: Digi-Key; Supplier Part Number 3: LMV225URDKR-ND; RoHS: Y; PinCount: 4; ComponentLink1Description: LMV225 Datasheet; ComponentLink1URL: http://www.national.com/ds/LM/LMV225.pdf; ComponentLink2Description: LMV225 Web Page; ComponentLink2URL: http://www.national.com/pf/LM/LMV225.html; ComponentLink3Description: URA04AAA Package Page; ComponentLink3URL: http://www.national.com/packaging/folders/ura04aaa.html
footprint URA04AAA (Micro SMD, 4-Leads, Body 0.98x0.98mm, Pitch 0.5mm, NSC Recommended)
pins: A1 RF IN/EN (in), A2 VDD (power), B1 GND (power), B2 OUT (out)

## LMV225URX/NOPB
designator U?
RF Power Detector for CDMA and WCDMA, 4-pin Micro SMD, Pb-Free; PartNumber: LMV225URX/NOPB; Manufacturer: National Semiconductor; PackageTopMarking: X*I; PowerWise: N; CompType: Analog IC; Published: 1-Mar-2010; DatasheetVersion: Oct-2006; PackageVersion: revC, Mar-2005; PackageReference: URA04AAA; Publisher: Altium Limited; PackageDescription: Ultra Thin Micro SMD, 4 Bump (Large), 0.5mm Pitch; Supplier 1: Digi-Key; Supplier Part Number 1: LMV225URX-ND; RoHS: Y; PinCount: 4; ComponentLink1Description: LMV225 Datasheet; ComponentLink1URL: http://www.national.com/ds/LM/LMV225.pdf; ComponentLink2Description: LMV225 Web Page; ComponentLink2URL: http://www.national.com/pf/LM/LMV225.html; ComponentLink3Description: URA04AAA Package Page; ComponentLink3URL: http://www.national.com/packaging/folders/ura04aaa.html
footprint URA04AAA (Micro SMD, 4-Leads, Body 0.98x0.98mm, Pitch 0.5mm, NSC Recommended)
pins: A1 RF IN/EN (in), A2 VDD (power), B1 GND (power), B2 OUT (out)

## LMV226TL/NOPB
designator U?
RF Power Detectors for CDMA and WCDMA, 4-pin Micro SMD, Pb-Free; PartNumber: LMV226TL/NOPB; Manufacturer: National Semiconductor; PackageTopMarking: X*I; PowerWise: N; CompType: Analog IC; Published: 1-Mar-2010; DatasheetVersion: Oct-2006; PackageVersion: revD, Mar-2005; PackageReference: TLA04AAA; Publisher: Altium Limited; PackageDescription: Thin Micro SMD, 4 Bump (Large), 0.5mm Pitch; Supplier 1: Digi-Key; Supplier Part Number 1: LMV226TLTR-ND; Supplier 2: Digi-Key; Supplier Part Number 2: LMV226TLCT-ND; Supplier 3: Digi-Key; Supplier Part Number 3: LMV226TLDKR-ND; RoHS: Y; PinCount: 4; Code_JEDEC: MO-211-BA; ComponentLink1Description: LMV226 Datasheet; ComponentLink1URL: http://www.national.com/ds/LM/LMV226.pdf; ComponentLink2Description: LMV226 Web Page; ComponentLink2URL: http://www.national.com/pf/LM/LMV226.html; ComponentLink3Description: TLA04AAA Package Page; ComponentLink3URL: http://www.national.com/packaging/folders/tla04aaa.html
footprint TLA04AAA (Micro SMD, 4-Leads, Body 1.01x1.01mm, Pitch 0.5mm, NSC Recommended)
pins: A1 RF IN/EN (in), A2 VDD (power), B1 GND (power), B2 OUT (out)

## LMV226TLX/NOPB
designator U?
RF Power Detectors for CDMA and WCDMA, 4-pin Micro SMD, Pb-Free; PartNumber: LMV226TLX/NOPB; Manufacturer: National Semiconductor; PackageTopMarking: X*I; PowerWise: N; CompType: Analog IC; Published: 1-Mar-2010; DatasheetVersion: Oct-2006; PackageVersion: revD, Mar-2005; PackageReference: TLA04AAA; Publisher: Altium Limited; PackageDescription: Thin Micro SMD, 4 Bump (Large), 0.5mm Pitch; Supplier 1: Digi-Key; Supplier Part Number 1: LMV226TLX-ND; RoHS: Y; PinCount: 4; Code_JEDEC: MO-211-BA; ComponentLink1Description: LMV226 Datasheet; ComponentLink1URL: http://www.national.com/ds/LM/LMV226.pdf; ComponentLink2Description: LMV226 Web Page; ComponentLink2URL: http://www.national.com/pf/LM/LMV226.html; ComponentLink3Description: TLA04AAA Package Page; ComponentLink3URL: http://www.national.com/packaging/folders/tla04aaa.html
footprint TLA04AAA (Micro SMD, 4-Leads, Body 1.01x1.01mm, Pitch 0.5mm, NSC Recommended)
pins: A1 RF IN/EN (in), A2 VDD (power), B1 GND (power), B2 OUT (out)

## LMV226UR/NOPB
designator U?
RF Power Detectors for CDMA and WCDMA, 4-pin Micro SMD, Pb-Free; PartNumber: LMV226UR/NOPB; Manufacturer: National Semiconductor; PackageTopMarking: X*I; PowerWise: N; CompType: Analog IC; Published: 1-Mar-2010; DatasheetVersion: Oct-2006; PackageVersion: revC, Mar-2005; PackageReference: URA04AAA; Publisher: Altium Limited; PackageDescription: Ultra Thin Micro SMD, 4 Bump (Large), 0.5mm Pitch; Supplier 1: Digi-Key; Supplier Part Number 1: LMV226URTR-ND; Supplier 2: Digi-Key; Supplier Part Number 2: LMV226URCT-ND; Supplier 3: Digi-Key; Supplier Part Number 3: LMV226URDKR-ND; RoHS: Y; PinCount: 4; ComponentLink1Description: LMV226 Datasheet; ComponentLink1URL: http://www.national.com/ds/LM/LMV226.pdf; ComponentLink2Description: LMV226 Web Page; ComponentLink2URL: http://www.national.com/pf/LM/LMV226.html; ComponentLink3Description: URA04AAA Package Page; ComponentLink3URL: http://www.national.com/packaging/folders/ura04aaa.html
footprint URA04AAA (Micro SMD, 4-Leads, Body 0.98x0.98mm, Pitch 0.5mm, NSC Recommended)
pins: A1 RF IN/EN (in), A2 VDD (power), B1 GND (power), B2 OUT (out)

## LMV226URX/NOPB
designator U?
RF Power Detectors for CDMA and WCDMA, 4-pin Micro SMD, Pb-Free; PartNumber: LMV226URX/NOPB; Manufacturer: National Semiconductor; PackageTopMarking: X*I; PowerWise: N; CompType: Analog IC; Published: 1-Mar-2010; DatasheetVersion: Oct-2006; PackageVersion: revC, Mar-2005; PackageReference: URA04AAA; Publisher: Altium Limited; PackageDescription: Ultra Thin Micro SMD, 4 Bump (Large), 0.5mm Pitch; Supplier 1: Digi-Key; Supplier Part Number 1: LMV226URX-ND; RoHS: Y; PinCount: 4; ComponentLink1Description: LMV226 Datasheet; ComponentLink1URL: http://www.national.com/ds/LM/LMV226.pdf; ComponentLink2Description: LMV226 Web Page; ComponentLink2URL: http://www.national.com/pf/LM/LMV226.html; ComponentLink3Description: URA04AAA Package Page; ComponentLink3URL: http://www.national.com/packaging/folders/ura04aaa.html
footprint URA04AAA (Micro SMD, 4-Leads, Body 0.98x0.98mm, Pitch 0.5mm, NSC Recommended)
pins: A1 RF IN/EN (in), A2 VDD (power), B1 GND (power), B2 OUT (out)

## LMV228TL/NOPB
designator U?
RF Power Detector for CDMA and WCDMA, 4-pin Micro SMD, Pb-Free; PartNumber: LMV228TL/NOPB; Manufacturer: National Semiconductor; PackageTopMarking: X*I; PowerWise: Y; CompType: Analog IC; Published: 1-Mar-2010; DatasheetVersion: Oct-2006; PackageVersion: revD, Mar-2005; PackageReference: TLA04AAA; Publisher: Altium Limited; PackageDescription: Thin Micro SMD, 4 Bump (Large), 0.5mm Pitch; Supplier 1: Digi-Key; Supplier Part Number 1: LMV228TLTR-ND; Supplier 2: Digi-Key; Supplier Part Number 2: LMV228TLCT-ND; Supplier 3: Digi-Key; Supplier Part Number 3: LMV228TLDKR-ND; RoHS: Y; PinCount: 4; Code_JEDEC: MO-211-BA; ComponentLink1Description: LMV228 Datasheet; ComponentLink1URL: http://www.national.com/ds/LM/LMV228.pdf; ComponentLink2Description: LMV228 Web Page; ComponentLink2URL: http://www.national.com/pf/LM/LMV228.html; ComponentLink3Description: TLA04AAA Package Page; ComponentLink3URL: http://www.national.com/packaging/folders/tla04aaa.html
footprint TLA04AAA (Micro SMD, 4-Leads, Body 1.01x1.01mm, Pitch 0.5mm, NSC Recommended)
pins: A1 RF IN/EN (in), A2 VDD (power), B1 GND (power), B2 OUT (out)

## LMV228TLX/NOPB
designator U?
RF Power Detector for CDMA and WCDMA, 4-pin Micro SMD, Pb-Free; PartNumber: LMV228TLX/NOPB; Manufacturer: National Semiconductor; PackageTopMarking: X*I; PowerWise: Y; CompType: Analog IC; Published: 1-Mar-2010; DatasheetVersion: Oct-2006; PackageVersion: revD, Mar-2005; PackageReference: TLA04AAA; Publisher: Altium Limited; PackageDescription: Thin Micro SMD, 4 Bump (Large), 0.5mm Pitch; Supplier 1: Digi-Key; Supplier Part Number 1: LMV228TLX-ND; RoHS: Y; PinCount: 4; Code_JEDEC: MO-211-BA; ComponentLink1Description: LMV228 Datasheet; ComponentLink1URL: http://www.national.com/ds/LM/LMV228.pdf; ComponentLink2Description: LMV228 Web Page; ComponentLink2URL: http://www.national.com/pf/LM/LMV228.html; ComponentLink3Description: TLA04AAA Package Page; ComponentLink3URL: http://www.national.com/packaging/folders/tla04aaa.html
footprint TLA04AAA (Micro SMD, 4-Leads, Body 1.01x1.01mm, Pitch 0.5mm, NSC Recommended)
pins: A1 RF IN/EN (in), A2 VDD (power), B1 GND (power), B2 OUT (out)

## LMV228UR/NOPB
designator U?
RF Power Detector for CDMA and WCDMA, 4-pin Micro SMD, Pb-Free; PartNumber: LMV228UR/NOPB; Manufacturer: National Semiconductor; PackageTopMarking: X*I; PowerWise: N; CompType: Analog IC; Published: 1-Mar-2010; DatasheetVersion: Oct-2006; PackageVersion: revC, Mar-2005; PackageReference: URA04AAA; Publisher: Altium Limited; PackageDescription: Ultra Thin Micro SMD, 4 Bump (Large), 0.5mm Pitch; Supplier 1: Digi-Key; Supplier Part Number 1: LMV228URTR-ND; Supplier 2: Digi-Key; Supplier Part Number 2: LMV228URCT-ND; Supplier 3: Digi-Key; Supplier Part Number 3: LMV228URDKR-ND; RoHS: Y; PinCount: 4; ComponentLink1Description: LMV228 Datasheet; ComponentLink1URL: http://www.national.com/ds/LM/LMV228.pdf; ComponentLink2Description: LMV228 Web Page; ComponentLink2URL: http://www.national.com/pf/LM/LMV228.html; ComponentLink3Description: URA04AAA Package Page; ComponentLink3URL: http://www.national.com/packaging/folders/ura04aaa.html
footprint URA04AAA (Micro SMD, 4-Leads, Body 0.98x0.98mm, Pitch 0.5mm, NSC Recommended)
pins: A1 RF IN/EN (in), A2 VDD (power), B1 GND (power), B2 OUT (out)

## LMV228URX/NOPB
designator U?
RF Power Detector for CDMA and WCDMA, 4-pin Micro SMD, Pb-Free; PartNumber: LMV228URX/NOPB; Manufacturer: National Semiconductor; PackageTopMarking: X*I; PowerWise: N; CompType: Analog IC; Published: 1-Mar-2010; DatasheetVersion: Oct-2006; PackageVersion: revC, Mar-2005; PackageReference: URA04AAA; Publisher: Altium Limited; PackageDescription: Ultra Thin Micro SMD, 4 Bump (Large), 0.5mm Pitch; Supplier 1: Digi-Key; Supplier Part Number 1: LMV228URX-ND; RoHS: Y; PinCount: 4; ComponentLink1Description: LMV228 Datasheet; ComponentLink1URL: http://www.national.com/ds/LM/LMV228.pdf; ComponentLink2Description: LMV228 Web Page; ComponentLink2URL: http://www.national.com/pf/LM/LMV228.html; ComponentLink3Description: URA04AAA Package Page; ComponentLink3URL: http://www.national.com/packaging/folders/ura04aaa.html
footprint URA04AAA (Micro SMD, 4-Leads, Body 0.98x0.98mm, Pitch 0.5mm, NSC Recommended)
pins: A1 RF IN/EN (in), A2 VDD (power), B1 GND (power), B2 OUT (out)

## LMV232TLX/NOPB
designator U?
Dual-Channel Integrated Mean Square Power Detector for CDMA & WCDMA, 8-pin Micro SMD, Pb-Free; PartNumber: LMV232TLX/NOPB; Manufacturer: National Semiconductor; PackageTopMarking: XVA*I 02; PowerWise: Y; CompType: Analog IC; Published: 1-Mar-2010; DatasheetVersion: Apr-2005; PackageVersion: revC, Jan-2004; PackageReference: TLA08AAA; Publisher: Altium Limited; PackageDescription: Thin Micro SMD, 8 Bump (Large), 0.5mm Pitch; Supplier 1: Digi-Key; Supplier Part Number 1: LMV232TLX-ND; RoHS: Y; PinCount: 8; ComponentLink1Description: LMV232 Datasheet; ComponentLink1URL: http://www.national.com/ds/LM/LMV232.pdf; ComponentLink2Description: LMV232 Web Page; ComponentLink2URL: http://www.national.com/pf/LM/LMV232.html; ComponentLink3Description: TLA08AAA Package Page; ComponentLink3URL: http://www.national.com/packaging/folders/tla08aaa.html
footprint TLA08AAA (Micro SMD, 8-Leads, Body 1.52x1.52mm, Pitch 0.5mm, NSC Recommended)
pins: A1 RF IN 1 (in), A2 FB (in), A3 OUT (out), B1 GND (power), B3 VDD (power), C1 RF IN 2 (in), C2 BS (in), C3 SD (in)

## LMV242LDX
designator U?
Dual Output, Quad-Band GSM/GPRS Power Amplifier Controller, 10-pin LLP; PartNumber: LMV242LDX; Manufacturer: National Semiconductor; PackageTopMarking: ZXYTT*242LD; PowerWise: Y; CompType: Analog IC; Published: 4-Dec-2008; DatasheetVersion: Jul-2004; PackageVersion: revB, Jan-2003; PackageReference: LDA10A; Publisher: Altium Limited; PackageDescription: LLP, Plastic, Dual, 3 x 3 x 0.75mm Body, 10 Lead, 0.5mm Pitch; RoHS: N; PinCount: 10; ComponentLink1Description: LMV242 Datasheet; ComponentLink1URL: http://www.national.com/ds/LM/LMV242.pdf; ComponentLink2Description: LMV242 Web Page; ComponentLink2URL: http://www.national.com/pf/LM/LMV242.html; ComponentLink3Description: LDA10A Package Page; ComponentLink3URL: http://www.national.com/packaging/folders/lda10a.html
footprint LDA10A (PSON, 10-Leads, Body 3x3mm, Pitch 0.5mm, NSC Recommended)
pins: 1 OUT 1 (out), 2 OUT 2 (out), 3 COMP 2, 4 VDD (power), 5 RF IN (in), 6 V RAMP (in), 7 TX_EN (in), 8 BS (in), 9 COMP 1, 10 GND (power), 11 DAP (power)

## LMV242LDX/NOPB
designator U?
Dual Output, Quad-Band GSM/GPRS Power Amplifier Controller, 10-pin LLP, Pb-Free; PartNumber: LMV242LDX/NOPB; Manufacturer: National Semiconductor; PackageTopMarking: ZXYTT*242LD; PowerWise: Y; CompType: Analog IC; Published: 1-Mar-2010; DatasheetVersion: Jul-2004; PackageVersion: revB, Jan-2003; PackageReference: LDA10A; Publisher: Altium Limited; PackageDescription: LLP, Plastic, Dual, 3 x 3 x 0.75mm Body, 10 Lead, 0.5mm Pitch; Supplier 1: Digi-Key; Supplier Part Number 1: LMV242LDX-ND; RoHS: Y; PinCount: 10; ComponentLink1Description: LMV242 Datasheet; ComponentLink1URL: http://www.national.com/ds/LM/LMV242.pdf; ComponentLink2Description: LMV242 Web Page; ComponentLink2URL: http://www.national.com/pf/LM/LMV242.html; ComponentLink3Description: LDA10A Package Page; ComponentLink3URL: http://www.national.com/packaging/folders/lda10a.html
footprint LDA10A (PSON, 10-Leads, Body 3x3mm, Pitch 0.5mm, NSC Recommended)
pins: 1 OUT 1 (out), 2 OUT 2 (out), 3 COMP 2, 4 VDD (power), 5 RF IN (in), 6 V RAMP (in), 7 TX_EN (in), 8 BS (in), 9 COMP 1, 10 GND (power), 11 DAP (power)

## LMX2433TMX
designator U?
3.6 GHz/1.7 GHz PLLatinum Dual High Frequency Synthesizer for RF Personal Communications, 20-pin TSSOP; PartNumber: LMX2433TMX; Manufacturer: National Semiconductor; PackageTopMarking: NSUZXYTT*LMX2433*TMDD; PowerWise: N; CompType: Analog IC; Published: 4-Dec-2008; DatasheetVersion: May-2003; PackageVersion: revE, Mar-2003; PackageReference: MTC20; Publisher: Altium Limited; PackageDescription: Molded TSSOP, Jedec, 6.5 x 4.4 x 0.9mm Body, 20 Lead, 0.65mm Pitch; RoHS: N; PinCount: 20; Code_JEDEC: MO-153-AC; ComponentLink1Description: LMX2433 Datasheet; ComponentLink1URL: http://www.national.com/ds/LM/LMX2433.pdf; ComponentLink2Description: LMX2433 Web Page; ComponentLink2URL: http://www.national.com/pf/LM/LMX2433.html; ComponentLink3Description: MTC20 Package Page; ComponentLink3URL: http://www.national.com/packaging/folders/mtc20.html
footprint MTC20_N (TSOP, 20-Leads, Body 6.5x4.4mm, Pitch 0.65mm, IPC Medium Density)
footprint MTC20_L (TSOP, 20-Leads, Body 6.5x4.4mm, Pitch 0.65mm, IPC High Density)
footprint MTC20_M (TSOP, 20-Leads, Body 6.5x4.4mm, Pitch 0.65mm, IPC Low Density)
pins: 1 VCC (power), 2 GND (power), 3 FIN IF (in), 4 EN (in), 5 CPOUT IF (out), 6 EN OSC (in), 7 OSC OUT/FLOUT IF (out), 8 OSC IN (in), 9 VCC (power), 10 FTEST/LD (hiz), 11 FLOUT RF (hiz), 12 GND (power), 13 CPOUT RF (out), 14 GND (power), 15 FIN RF (in), 16 FIN RF* (in), 17 VCC (power), 18 LE (in), 19 CLK (in), 20 DATA (in)

## LMX2433TMX/NOPB
designator U?
3.6 GHz/1.7 GHz PLLatinum Dual High Frequency Synthesizer for RF Personal Communications, 20-pin TSSOP, Pb-Free; PartNumber: LMX2433TMX/NOPB; Manufacturer: National Semiconductor; PackageTopMarking: NSUZXYTT*LMX2433*TMDD; PowerWise: N; CompType: Analog IC; Published: 1-Mar-2010; DatasheetVersion: May-2003; PackageVersion: revE, Mar-2003; PackageReference: MTC20; Publisher: Altium Limited; PackageDescription: Molded TSSOP, Jedec, 6.5 x 4.4 x 0.9mm Body, 20 Lead, 0.65mm Pitch; Supplier 1: Digi-Key; Supplier Part Number 1: LMX2433TMX-ND; RoHS: Y; PinCount: 20; Code_JEDEC: MO-153-AC; ComponentLink1Description: LMX2433 Datasheet; ComponentLink1URL: http://www.national.com/ds/LM/LMX2433.pdf; ComponentLink2Description: LMX2433 Web Page; ComponentLink2URL: http://www.national.com/pf/LM/LMX2433.html; ComponentLink3Description: MTC20 Package Page; ComponentLink3URL: http://www.national.com/packaging/folders/mtc20.html
footprint MTC20_N (TSOP, 20-Leads, Body 6.5x4.4mm, Pitch 0.65mm, IPC Medium Density)
footprint MTC20_L (TSOP, 20-Leads, Body 6.5x4.4mm, Pitch 0.65mm, IPC High Density)
footprint MTC20_M (TSOP, 20-Leads, Body 6.5x4.4mm, Pitch 0.65mm, IPC Low Density)
pins: 1 VCC (power), 2 GND (power), 3 FIN IF (in), 4 EN (in), 5 CPOUT IF (out), 6 EN OSC (in), 7 OSC OUT/FLOUT IF (out), 8 OSC IN (in), 9 VCC (power), 10 FTEST/LD (hiz), 11 FLOUT RF (hiz), 12 GND (power), 13 CPOUT RF (out), 14 GND (power), 15 FIN RF (in), 16 FIN RF* (in), 17 VCC (power), 18 LE (in), 19 CLK (in), 20 DATA (in)

## MF10CCN
designator U?
Universal Monolithic Dual Switched Capacitor Filter, 20-pin MDIP; PartNumber: MF10CCN; Manufacturer: National Semiconductor; PackageTopMarking: NSUZXYYTTE#*MF10CCN; PowerWise: N; CompType: Analog IC; Published: 4-Dec-2008; DatasheetVersion: May-2001; PackageVersion: revG, Nov-1984; PackageReference: N20A; Publisher: Altium Limited; PackageDescription: Molded Dip (N) 20 Lead; Supplier 1: Farnell; Supplier Part Number 1: 9487727; RoHS: N; PinCount: 20; Code_JEDEC: MS-001-AD; ComponentLink1Description: MF10 Datasheet; ComponentLink1URL: http://www.national.com/ds/MF/MF10.pdf; ComponentLink2Description: MF10 Web Page; ComponentLink2URL: http://www.national.com/pf/MF/MF10.html; ComponentLink3Description: N20A Package Page; ComponentLink3URL: http://www.national.com/packaging/folders/n20a.html
footprint N20A (DIP, 20-Leads, Row Spacing 7.62mm, Pitch 2.54mm, Body 26.07x6.6mm)
pins: 1 LPA (out), 2 BPA (out), 3 N/AP/HPA (out), 4 INVA (in), 5 S1A (in), 6 SA/B (in), 7 VA+ (power), 8 VD+ (power), 9 LSH (in), 10 CLKA (in), 11 CLKB (in), 12 50/100/CL (in), 13 VD- (power), 14 VA- (power), 15 AGND (power), 16 S1B (in), 17 INVB (in), 18 N/AP/HPB (out), 19 BPB (out), 20 LPB (out)

## MF10CCWM
designator U?
Universal Monolithic Dual Switched Capacitor Filter, 20-pin Wide SOIC; PartNumber: MF10CCWM; Manufacturer: National Semiconductor; PackageTopMarking: NSUZXYTTE#*MF10CCWM; PowerWise: N; CompType: Analog IC; Published: 29-May-2009; DatasheetVersion: May-2001; PackageVersion: revG, Jan-1996; PackageReference: M20B; Publisher: Altium Limited; PackageDescription: Molded Package, S0, .300in Wide, 20 Lead; RoHS: N; PinCount: 20; Code_JEDEC: MS-013-AC; Code_IPC: SOIC127P1030-20; ComponentLink1Description: MF10 Datasheet; ComponentLink1URL: http://www.national.com/ds/MF/MF10.pdf; ComponentLink2Description: MF10 Web Page; ComponentLink2URL: http://www.national.com/pf/MF/MF10.html; ComponentLink3Description: M20B Package Page; ComponentLink3URL: http://www.national.com/packaging/folders/m20b.html
footprint M20B_N (SOIC, 20-Leads, Body 12.8x7.5mm, Pitch 1.27mm, IPC Medium Density)
footprint M20B_L (SOIC, 20-Leads, Body 12.8x7.5mm, Pitch 1.27mm, IPC High Density)
footprint M20B_M (SOIC, 20-Leads, Body 12.8x7.5mm, Pitch 1.27mm, IPC Low Density)
pins: 1 LPA (out), 2 BPA (out), 3 N/AP/HPA (out), 4 INVA (in), 5 S1A (in), 6 SA/B (in), 7 VA+ (power), 8 VD+ (power), 9 LSH (in), 10 CLKA (in), 11 CLKB (in), 12 50/100/CL (in), 13 VD- (power), 14 VA- (power), 15 AGND (power), 16 S1B (in), 17 INVB (in), 18 N/AP/HPB (out), 19 BPB (out), 20 LPB (out)

## MF10CCWMX
designator U?
Universal Monolithic Dual Switched Capacitor Filter, 20-pin Wide SOIC; PartNumber: MF10CCWMX; Manufacturer: National Semiconductor; PackageTopMarking: NSUZXYTTE#*MF10CCWM; PowerWise: N; CompType: Analog IC; Published: 4-Dec-2008; DatasheetVersion: May-2001; PackageVersion: revG, Jan-1996; PackageReference: M20B; Publisher: Altium Limited; PackageDescription: Molded Package, S0, .300in Wide, 20 Lead; RoHS: N; PinCount: 20; Code_JEDEC: MS-013-AC; Code_IPC: SOIC127P1030-20; ComponentLink1Description: MF10 Datasheet; ComponentLink1URL: http://www.national.com/ds/MF/MF10.pdf; ComponentLink2Description: MF10 Web Page; ComponentLink2URL: http://www.national.com/pf/MF/MF10.html; ComponentLink3Description: M20B Package Page; ComponentLink3URL: http://www.national.com/packaging/folders/m20b.html
footprint M20B_N (SOIC, 20-Leads, Body 12.8x7.5mm, Pitch 1.27mm, IPC Medium Density)
footprint M20B_L (SOIC, 20-Leads, Body 12.8x7.5mm, Pitch 1.27mm, IPC High Density)
footprint M20B_M (SOIC, 20-Leads, Body 12.8x7.5mm, Pitch 1.27mm, IPC Low Density)
pins: 1 LPA (out), 2 BPA (out), 3 N/AP/HPA (out), 4 INVA (in), 5 S1A (in), 6 SA/B (in), 7 VA+ (power), 8 VD+ (power), 9 LSH (in), 10 CLKA (in), 11 CLKB (in), 12 50/100/CL (in), 13 VD- (power), 14 VA- (power), 15 AGND (power), 16 S1B (in), 17 INVB (in), 18 N/AP/HPB (out), 19 BPB (out), 20 LPB (out)

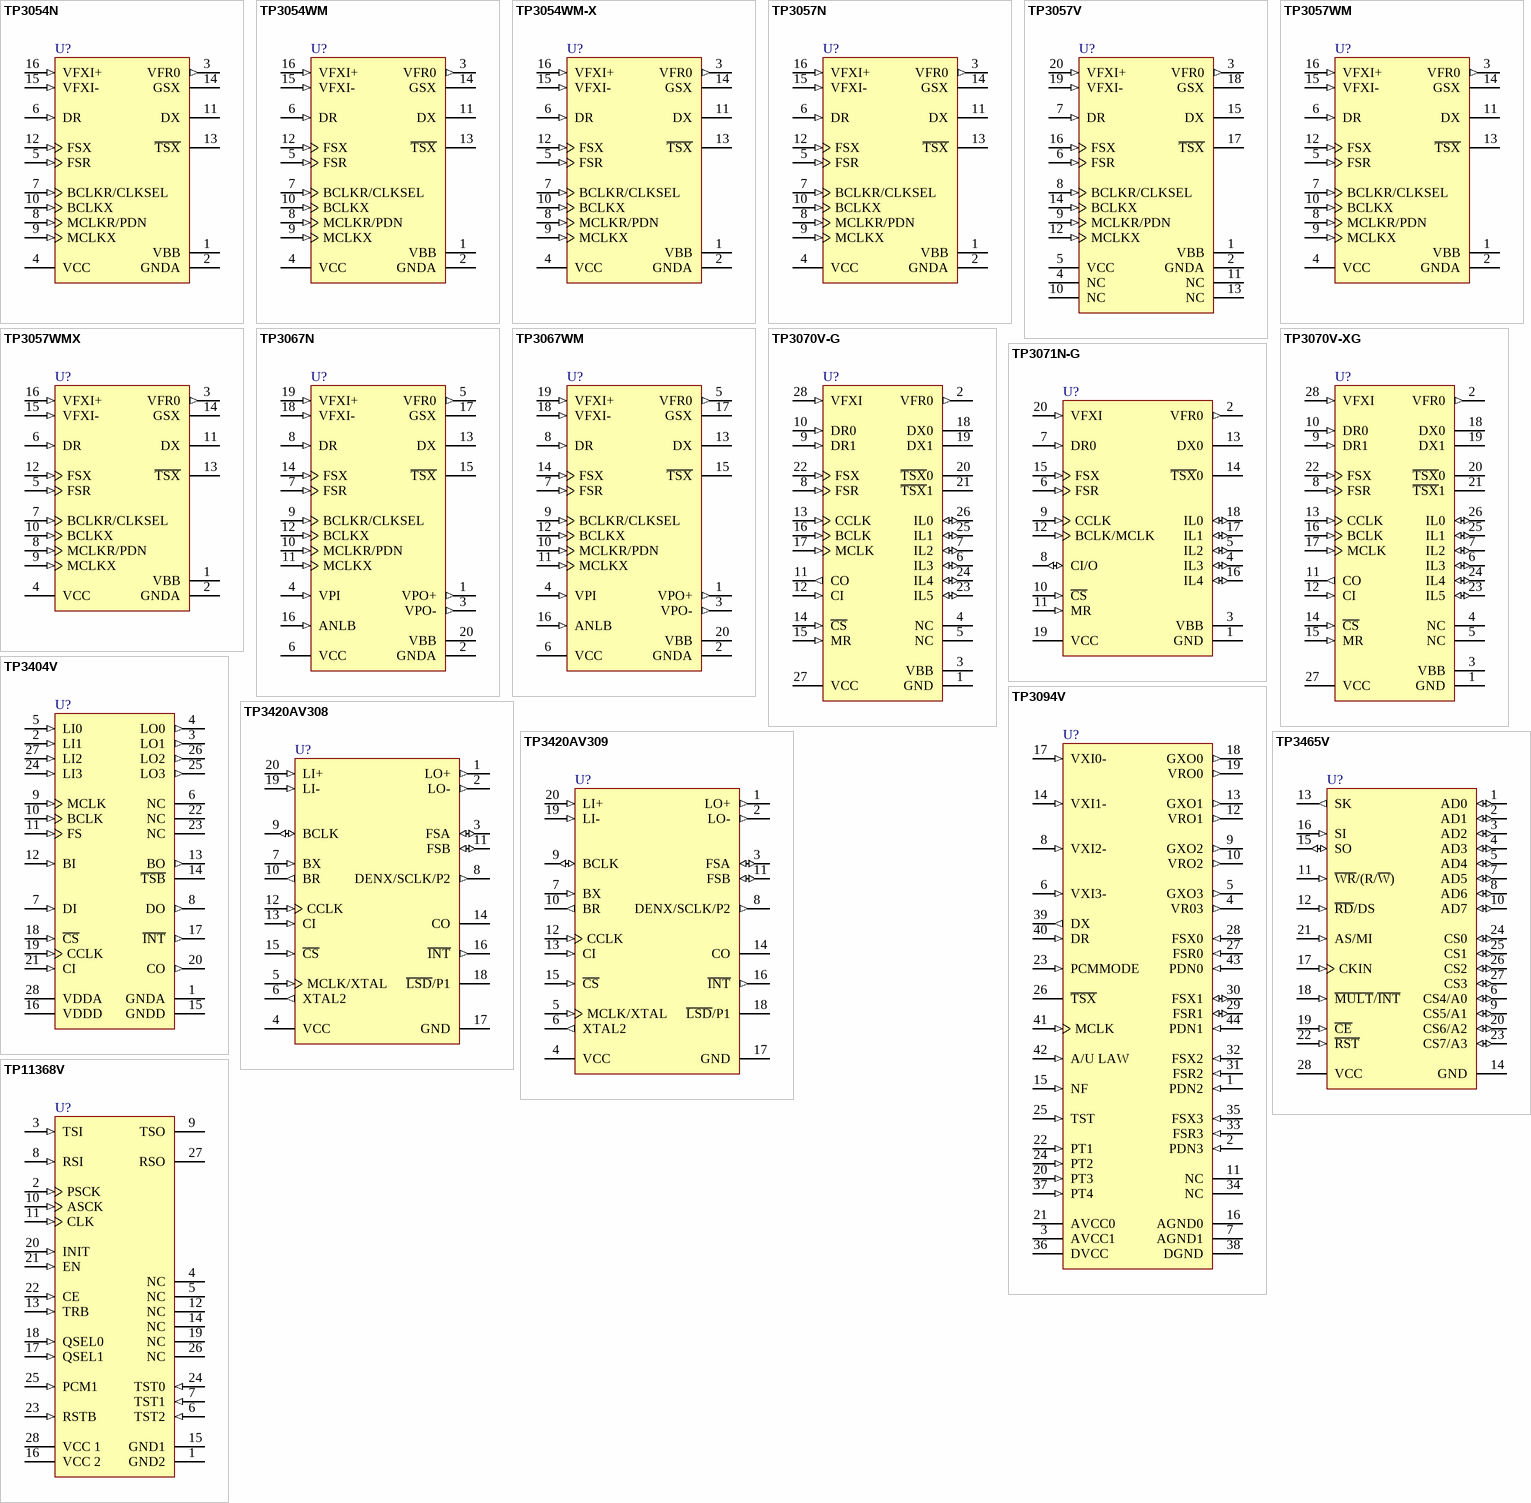
[diagram p7: symbols TP3054N to TP11368V]

## TP3054N
designator U?
Enhanced Serial Interface CODEC/Filter COMBO, 16-pin MDIP; PartNumber: TP3054N; Manufacturer: National Semiconductor; PackageTopMarking: NSUZXYYTTE#*TP3054N*COMBOR; PowerWise: N; CompType: Analog IC; Published: 4-Dec-2008; DatasheetVersion: Aug-1994; PackageVersion: revG, May-2006; PackageReference: N16E; Publisher: Altium Limited; PackageDescription: MDIP, .750 x .250 x .130in, 16 Lead, .100in Pitch; RoHS: N; PinCount: 16; Code_JEDEC: MS-001-BB; ComponentLink1Description: TP3054 Datasheet; ComponentLink1URL: http://www.national.com/ds/TP/TP3054.pdf; ComponentLink2Description: TP3054 Web Page; ComponentLink2URL: http://www.national.com/pf/TP/TP3054.html; ComponentLink3Description: N16E Package Page; ComponentLink3URL: http://www.national.com/packaging/folders/n16e.html
footprint N16E (DIP, 16-Leads, Row Spacing 7.62mm, Pitch 2.54mm, Body 19.3x6.35mm)
pins: 1 VBB (power), 2 GNDA (power), 3 VFR0 (out), 4 VCC (power), 5 FSR (in), 6 DR (in), 7 BCLKR/CLKSEL (in), 8 MCLKR/PDN (in), 9 MCLKX (in), 10 BCLKX (in), 11 DX (hiz), 12 FSX (in), 13 ~{TSX} (oc), 14 GSX, 15 VFXI- (in), 16 VFXI+ (in)